# EAGLE library part LM2776 (library custom)
Charge Pump Switching Regulator IC Negative Fixed -Vin 200mA
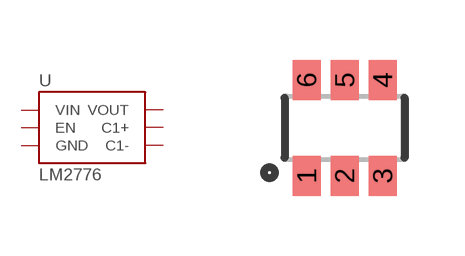
[diagram p128: symbol with the pads of SOT23-6; footprint SOT23-6]

Designator prefix U

## LM2776  [SOT23-6]
1  VOUT
2  GND
3  VIN
4  EN
5  C1+
6  C1-

## Footprint SOT23-6 (pad centres in mm)
smd 0.7 x 1: 1 -0.95,-1.2; 2 0,-1.2; 3 0.95,-1.2; 4 0.95,1.2; 5 0,1.2; 6 -0.95,1.2